# Altium footprint library RPI_Lib.PcbLib: 1 footprints
Each footprint in its own frame and in the unit in brackets; x right, y up, seen from the top. Pads: shape width x height; smd on the part's side, far side on the other; paste and mask are expansions set on the pad; w line width, h text height; cw(c..) or ccw(c..) is an arc to the next point about the centre after c.
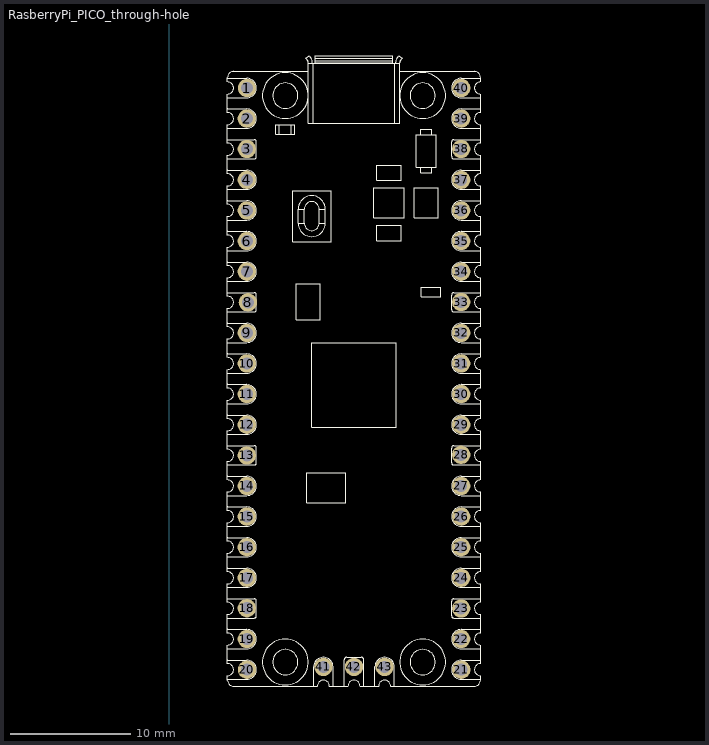
[diagram p0: the footprint, top view; thin cyan lines are the x and y axes]

## RasberryPi_PICO_through-hole [mil]
pads (43):
  round 60 hole 39.37: 1(254,2149) 2(253.64,2049.19) 3(253.64,1950) 4(253.64,1849.19) 5(253.64,1749.19) 6(253.64,1649.19) 7(253.64,1549.19) 8(257,1449) 9(253.64,1349.19) 10(253.64,1249.19) 11(253.64,1149.19) 12(253.64,1049.19) 13(253.64,949) 14(253.64,849.19) 15(253.64,749.19) 16(253.64,649.19) 17(253.64,549.19) 18(253.64,450) 19(253.64,349.19) 20(254,249) 21(954,249) 22(953.64,349.19) 23(953.64,449) 24(953.64,549.19) 25(953.64,649.19) 26(953.64,749.19) 27(953.64,849.19) 28(953.64,951) 29(953.64,1049.19) 30(953.64,1149.19) 31(953.64,1249.19) 32(953.64,1349.19) 33(953.64,1450) 34(953.64,1549.19) 35(953.64,1649.19) 36(953.64,1749.19) 37(953.64,1849.19) 38(953.64,1950) 39(953.64,2049.19) 40(954,2149) 41(503.64,258.24) 42(603.64,258.24) 43(703.64,258.24)
Top Overlay:
  drawing of 412 lines, arcs and shapes, not listed